# Altium schematic symbol library IC_SHT4x.Schlib: 1 symbol
Pins are listed as number, name and electrical type; pins without a type are passive.

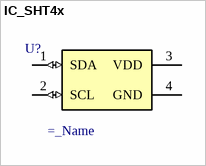
[diagram p0: symbol IC_SHT4x]

## IC_SHT4x
designator U?  (value not drawn)
=description; Value: =_Name
pins: 1 SDA (io), 2 SCL (io), 3 VDD (power), 4 GND (power)